# EAGLE library part SWITCH_DPDT (library CMU-ArtFab)
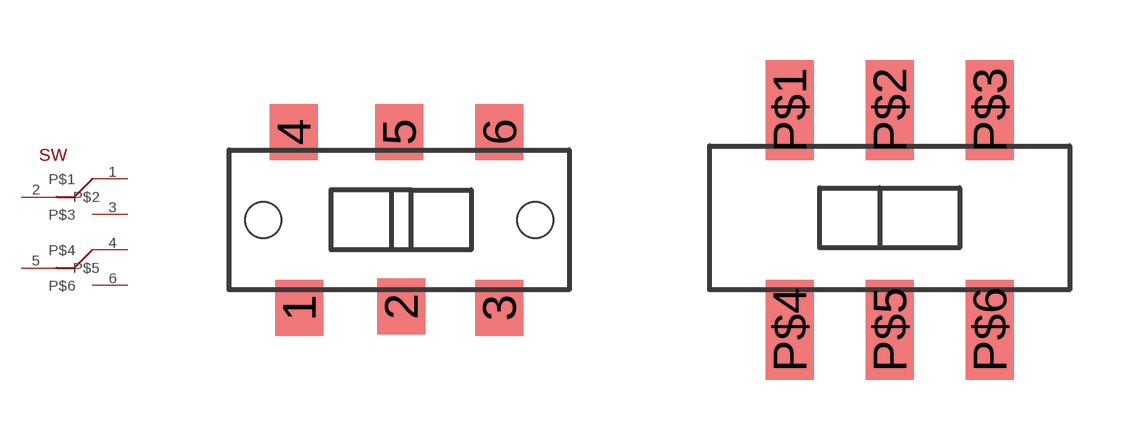
[diagram p20: symbol with the pads of SWITCH_DPDT_CL-SB-22B; footprints SWITCH_DPDT_CL-SB-22B, SWTICH_DPDT_JS202011SCQN]

Designator prefix SW

## SWITCH_DPDT  [SWITCH_DPDT_CL-SB-22B]
1  P$1
2  P$2
3  P$3
4  P$4
5  P$5
6  P$6

## SWITCH_DPDTSWITCH_DPDT_JS202011SCQN  [SWTICH_DPDT_JS202011SCQN]
P$1  P$1
P$2  P$2
P$3  P$3
P$4  P$4
P$5  P$5
P$6  P$6

## Footprint SWITCH_DPDT_CL-SB-22B (pad centres in mm)
smd 1.2 x 1.4: 1 -2.5,-2.2; 2 0.05,-2.17; 3 2.5,-2.2; 4 -2.63,2.2; 5 0,2.2; 6 2.51,2.2
hole 0.9 at -3.4,0
hole 0.9 at 3.4,0

## Footprint SWTICH_DPDT_JS202011SCQN (pad centres in mm)
smd 1.2 x 2.5: P$1 -2.5,2.7; P$2 0,2.7; P$3 2.5,2.7; P$4 -2.5,-2.8; P$5 0,-2.8; P$6 2.5,-2.8